# EAGLE library part JUMPER_4POSITIONS (library SMD-Components_E950)
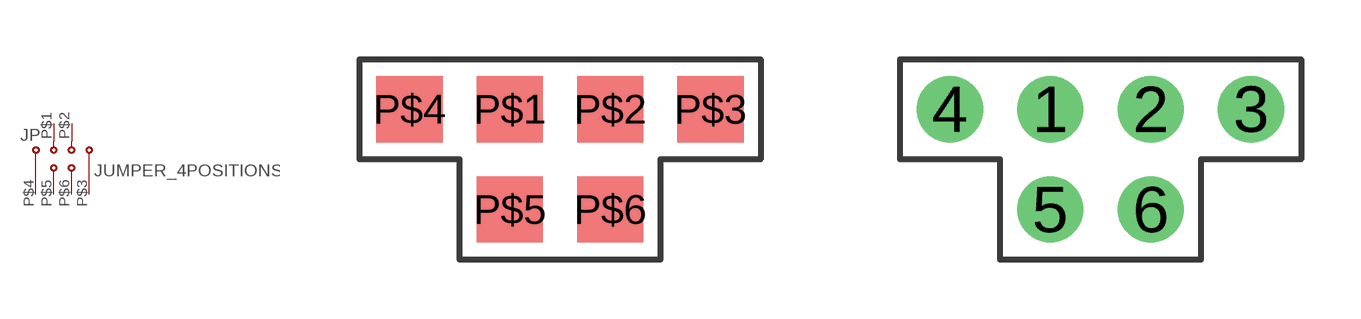
[diagram p3: symbol with the pads of PN517_JUMPER_4POL_SMD; footprints PN517_JUMPER_4POL_SMD, PN517_JUMPER_4POL_THOLE]

Designator prefix JP

## JUMPER_4POSITIONSSMD  [PN517_JUMPER_4POL_SMD]
P$1  1  pas
P$2  2  pas
P$3  3  pas
P$4  4  pas
P$5  5  pas
P$6  6  pas

## JUMPER_4POSITIONSTH  [PN517_JUMPER_4POL_THOLE]
1  1  pas
2  2  pas
3  3  pas
4  4  pas
5  5  pas
6  6  pas

## Footprint PN517_JUMPER_4POL_SMD (pad centres in mm)
smd 1.676 x 1.676: P$1 0,0; P$2 2.54,0; P$3 5.08,0; P$4 -2.54,0; P$5 0,-2.54; P$6 2.54,-2.54

## Footprint PN517_JUMPER_4POL_THOLE (pad centres in mm)
drill 1 pad 1.676: 1 0,0; 2 2.54,0; 3 5.08,0; 4 -2.54,0; 5 0,-2.54; 6 2.54,-2.54